# EAGLE library part EMC1183-A-AIA (library EMC1183-A-AIA_Library)
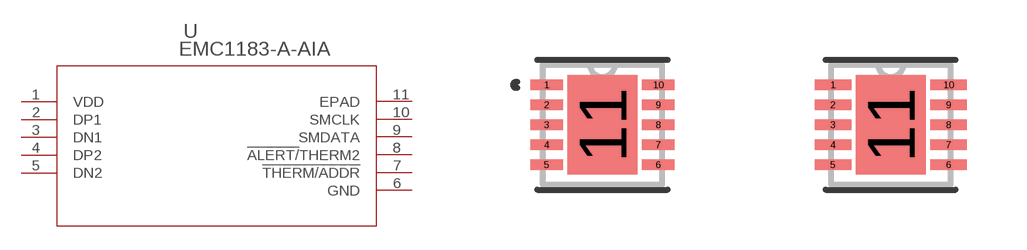
[diagram p0: symbol with the pads of DFN10_3x3MC_MCH; footprints DFN10_3x3MC_MCH, DFN10_3x3MC_MCH-M]

Designator prefix U

## EMC1183-A-AIADFN10_3x3MC_MCH (Copyright: Copyright (C) 2025 Ultra Librarian. All rights reserved.; Manufacturer_Part_Number: EMC1183-A-AIA; Mfr_Name: Microchip)  [DFN10_3x3MC_MCH]
1  VDD  pwr
2  DP1
3  DN1
4  DP2
5  DN2
6  GND  pwr
7  !THERM/ADDR  out
8  !ALERT/!THERM2  out
9  SMDATA
10  SMCLK  in
11  EPAD  pas

## EMC1183-A-AIADFN10_3x3MC_MCH-M (Copyright: Copyright (C) 2025 Ultra Librarian. All rights reserved.; Manufacturer_Part_Number: EMC1183-A-AIA; Mfr_Name: Microchip)  [DFN10_3x3MC_MCH-M]
Pads as for DFN10_3x3MC_MCH

## EMC1183-A-AIADFN10_3x3MC_MCH-L (Copyright: Copyright (C) 2025 Ultra Librarian. All rights reserved.; Manufacturer_Part_Number: EMC1183-A-AIA; Mfr_Name: Microchip)  [DFN10_3x3MC_MCH-L]
Pads as for DFN10_3x3MC_MCH

## Footprint DFN10_3x3MC_MCH (pad centres in mm)
smd 0.813 x 0.254: 1 -1.397,1; 2 -1.397,0.5; 3 -1.397,0; 4 -1.397,-0.5; 5 -1.397,-1; 6 1.397,-1; 7 1.397,-0.5; 8 1.397,0; 9 1.397,0.5; 10 1.397,1
smd 1.753 x 2.489: 11 0,0

## Footprint DFN10_3x3MC_MCH-M (pad centres in mm)
smd 0.914 x 0.254: 1 -1.448,1; 2 -1.448,0.5; 3 -1.448,0; 4 -1.448,-0.5; 5 -1.448,-1; 6 1.448,-1; 7 1.448,-0.5; 8 1.448,0; 9 1.448,0.5; 10 1.448,1
smd 1.753 x 2.489: 11 0,0

## Footprint DFN10_3x3MC_MCH-L (pad centres in mm)
smd 0.711 x 0.254: 1 -1.346,1; 2 -1.346,0.5; 3 -1.346,0; 4 -1.346,-0.5; 5 -1.346,-1; 6 1.346,-1; 7 1.346,-0.5; 8 1.346,0; 9 1.346,0.5; 10 1.346,1
smd 1.753 x 2.489: 11 0,0